# Altium footprint library hro_conn_usbc_type-c-31-m-13.PcbLib: 1 footprints
Each footprint in its own frame and in the unit in brackets; x right, y up, seen from the top. Pads: shape width x height; smd on the part's side, far side on the other; paste and mask are expansions set on the pad; w line width, h text height; cw(c..) or ccw(c..) is an arc to the next point about the centre after c.
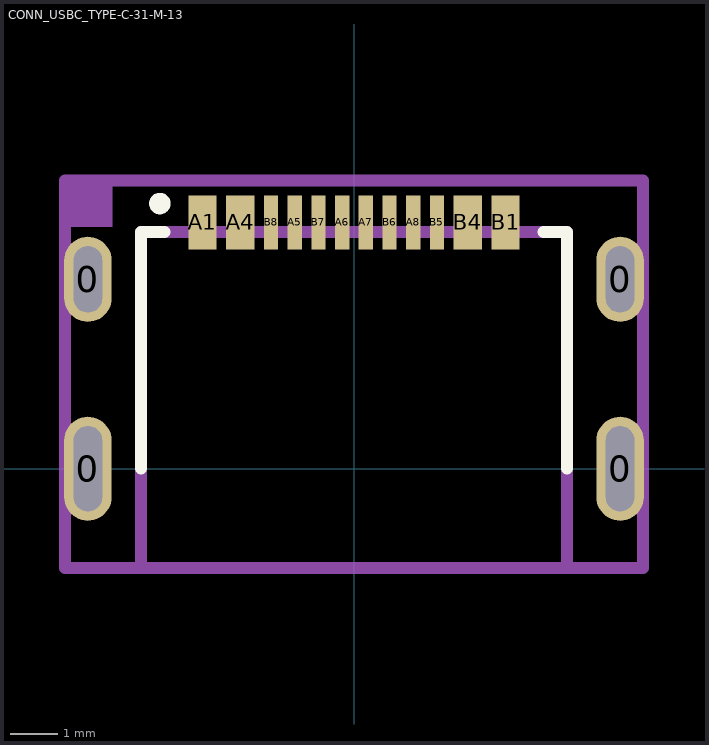
[diagram p0: the footprint, top view; thin cyan lines are the x and y axes]

## CONN_USBC_TYPE-C-31-M-13 [mm] "USB 2.0 12P USB-C connector"
pads (16):
  oval 1x2.2 hole 0.6 slot 1.8 at 90 deg: 0(-5.62,0) 0(5.62,0)
  oval 1x1.8 hole 0.6 slot 1.4 at 90 deg: 0(-5.62,4) 0(5.62,4)
  rect 0.6x1.15 smd: A1(-3.2,5.2) A4(-2.4,5.2) B1(3.2,5.2) B4(2.4,5.2)
  rect 0.3x1.15 smd: A5(-1.25,5.2) A6(-0.25,5.2) A7(0.25,5.2) A8(1.25,5.2) B5(1.75,5.2) B6(0.75,5.2) B7(-0.75,5.2) B8(-1.75,5.2)
Top Overlay:
  circle w0.254: c-4.1,5.6 r0.1
  lines w0.254: -4.5,0 -4.5,5 -4,5 ; 4,5 4.5,5 4.5,0
Top 3D Body (Mech13):
  lines w0.254: -4.5,-2.1 4.5,-2.1 4.5,5 -4.5,5 -4.5,-2.1
Top Courtyard:
  rectangle: -6.1,5.1 -5.1,6.1
  lines w0.254: -6.1,-2.1 6.1,-2.1 6.1,6.084 -6.1,6.084 -6.1,-2.1
Top Designator:
  text ".Designator" at -1.974,-0.375 h2.03
3D body: height 2.56, standoff 0, extent -4.5,-2.1 4.5,5